# Altium footprint library PcbLib1.PcbLib: 18 footprints (part 2 of 2)
Each footprint in its own frame and in the unit in brackets; x right, y up, seen from the top. Pads: shape width x height; smd on the part's side, far side on the other; paste and mask are expansions set on the pad; w line width, h text height; cw(c..) or ccw(c..) is an arc to the next point about the centre after c.
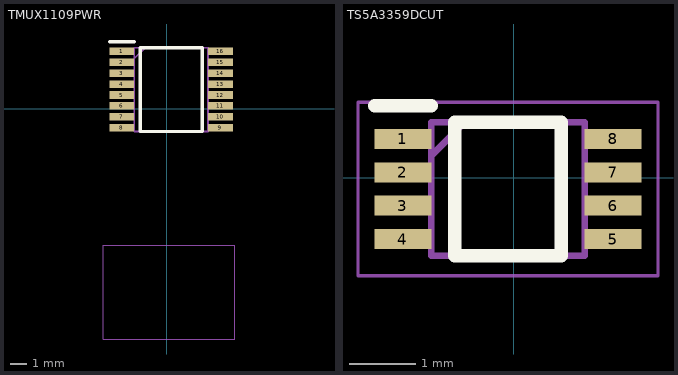
[diagram p1: the footprints below, top view; thin cyan lines are the x and y axes]

## TMUX1109PWR [mm]
pads (16):
  rect 1.475x0.45 smd: 1(-2.684,3.418) 2(-2.684,2.768) 3(-2.684,2.118) 4(-2.684,1.468) 5(-2.684,0.818) 6(-2.684,0.168) 7(-2.684,-0.482) 8(-2.684,-1.132) 9(3.192,-1.132) 10(3.192,-0.482) 11(3.192,0.168) 12(3.192,0.818) 13(3.192,1.468) 14(3.192,2.118) 15(3.192,2.768) 16(3.192,3.418)
Top Overlay:
  lines w0.2: -3.421,3.993 -1.946,3.993 ; -1.596,-1.357 2.104,-1.357 2.104,3.643 -1.596,3.643 -1.596,-1.357
Mechanical 15:
  lines w0.1: -1.946,2.993 -1.296,3.643 ; -1.946,-1.357 2.454,-1.357 2.454,3.643 -1.946,3.643 -1.946,-1.357
Mechanical 20:
  lines w0.05: -3.798,-13.722 4.052,-13.722 4.052,-8.122 -3.798,-8.122 -3.798,-13.722
3D body "TMUX1109PWR.stp": height 1.13, standoff 0, extent -2.946,-1.357 3.454,3.643

## TS5A3359DCUT [mm]
pads (8):
  rect 0.85x0.3 smd: 1(-1.662,0.581) 2(-1.662,0.081) 3(-1.662,-0.419) 4(-1.662,-0.919) 5(1.488,-0.919) 6(1.488,-0.419) 7(1.488,0.081) 8(1.488,0.581)
Top Overlay:
  lines w0.2: -2.087,1.081 -1.237,1.081 ; -0.887,-1.169 -0.887,0.831 0.713,0.831 0.713,-1.169 -0.887,-1.169
Mechanical 15:
  lines w0.1: -1.237,0.331 -0.737,0.831 ; -1.237,-1.169 -1.237,0.831 1.063,0.831 1.063,-1.169 -1.237,-1.169
Mechanical 20:
  lines w0.05: -2.337,-1.469 -2.337,1.131 2.163,1.131 2.163,-1.469 -2.337,-1.469
3D body "TS5A3359DCUT.stp": height 0.77, standoff 0, extent -1.677,-1.156 1.423,0.844